# EAGLE library part 6N137 (library arno)
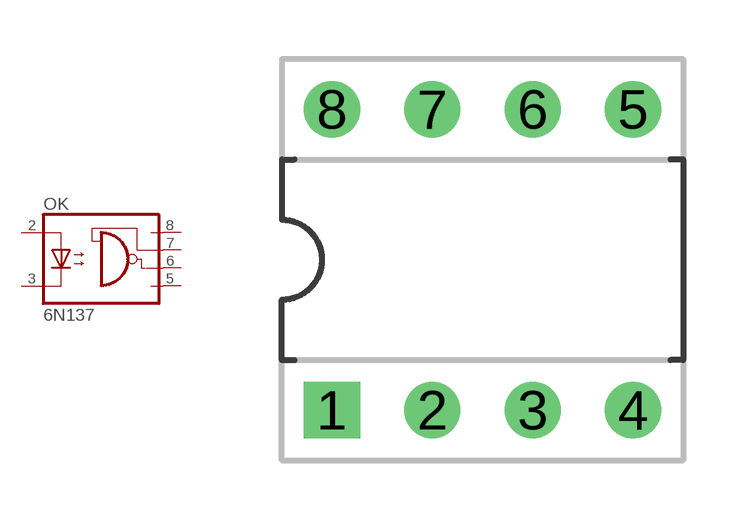
[diagram p7: symbol with the pads of SOCKET-DIL08; footprint SOCKET-DIL08]

Designator prefix OK

## 6N137-DIL08  [SOCKET-DIL08]
2  A  pas
3  C  pas
5  GND  pas
6  VO  pas
7  VE  pas
8  VCC  pas

## Footprint SOCKET-DIL08 (pad centres in mm)
drill 0.813 pad 1.422 square: 1 -3.81,-3.81
drill 0.813 pad 1.422: 2 -1.27,-3.81; 3 1.27,-3.81; 4 3.81,-3.81; 5 3.81,3.81; 6 1.27,3.81; 7 -1.27,3.81; 8 -3.81,3.81